# Altium schematic symbol library V_4.SchLib: 4 symbols
Pins are listed as number, name and electrical type; pins without a type are passive.

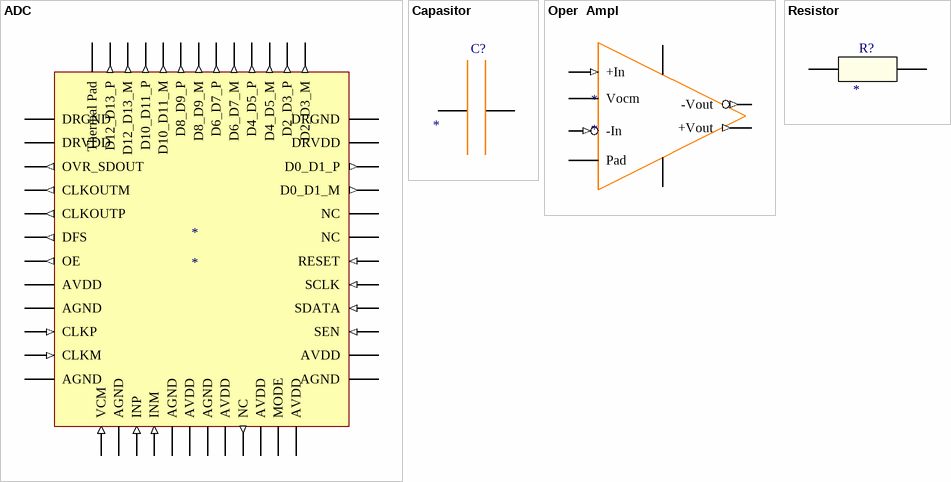
[diagram p0: symbols ADC to Resistor]

## ADC
designator *
footprint ADS61b49
pins: 26 DRGND (power), 27 DRVDD (power), 28 OVR_SDOUT (out), 29 CLKOUTM (out), 30 CLKOUTP (out), 31 DFS (out), 32 OE (out), 33 AVDD (power), 34 AGND (power), 35 CLKP (in), 36 CLKM (in), 37 AGND (power), 38 VCM (in), 39 AGND (power), 40 INP (in), 41 INM (in), 42 AGND (power), 43 AVDD (power), 44 AGND (power), 45 AVDD (power), 46 NC (out), 47 AVDD (power), 48 MODE (power), 49 AVDD (power), 50 AGND (power), 51 AVDD (power), 52 SEN (in), 53 SDATA (in), 54 SCLK (in), 55 RESET (in), 56 NC (power), 57 NC (power), 58 D0_D1_M (out), 59 D0_D1_P (out), 60 DRVDD (power), 61 DRGND (power), 62 D2_D3_M (out), 63 D2_D3_P (out), 64 D4_D5_M (out), 65 D4_D5_P (out), 66 D6_D7_M (out), 67 D6_D7_P (out), 68 D8_D9_M (out), 69 D8_D9_P (out), 70 D10_D11_M (out), 71 D10_D11_P (out), 72 D12_D13_M (out), 73 D12_D13_P (out), 74 Thermal Pad (power)

## Capasitor
designator C?
Value: *
footprint C_0805
pins: 2, 3

## Oper  Ampl
designator *
footprint ADA4932-1
pins: 18 +In (in), 19 Vocm, 20 -In (in), 21 Pad, 22 -Vs, 23 +Vs, 24 -Vout (out), 25 +Vout (out)

## Resistor
designator R?
Model: *; Value: *
footprint R_0805
pins: 0, 1